# EAGLE library part MC100EP29DTG (library ON_Semiconductor_By_element14_Batch_1)
D Flip-Flop
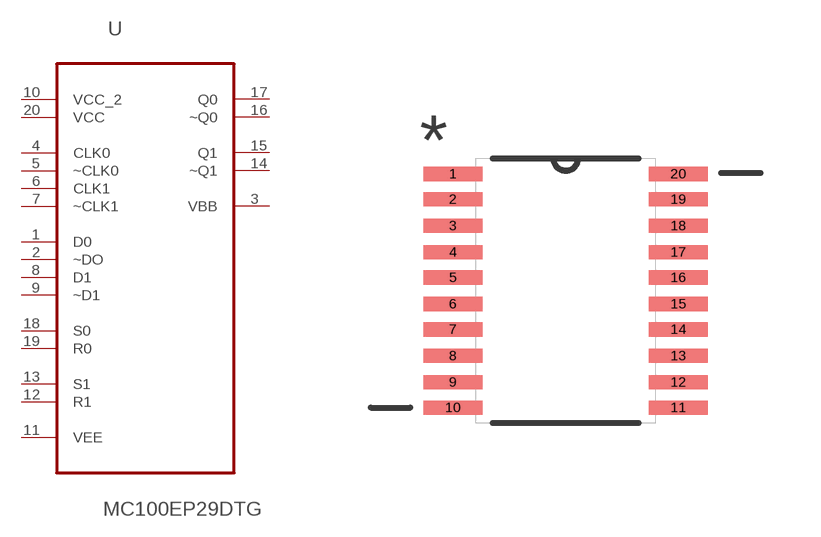
[diagram p112: symbol with the pads of SOP65P640X120-20N; footprint SOP65P640X120-20N]

Designator prefix U

## MC100EP29DTG (MPN: MC100EP29DTG; OC_FARNELL: 1126231; OC_NEWARK: 42K0420; PACKAGE: TSSOP-20; SUPPLIER: On Semiconductor)  [SOP65P640X120-20N]
1  D0  in
2  ~DO  in
3  VBB  out
4  CLK0  in
5  ~CLK0  in
6  CLK1  in
7  ~CLK1  in
8  D1  in
9  ~D1  in
10  VCC_2  pwr
11  VEE  pwr
12  R1  in
13  S1  in
14  ~Q1  out
15  Q1  out
16  ~Q0  out
17  Q0  out
18  S0  in
19  R0  in
20  VCC  pwr

## Footprint SOP65P640X120-20N (pad centres in mm)
smd 1.473 x 0.356: 1 -2.819,2.921; 2 -2.819,2.286; 3 -2.819,1.626; 4 -2.819,0.965; 5 -2.819,0.33; 6 -2.819,-0.33; 7 -2.819,-0.965; 8 -2.819,-1.626; 9 -2.819,-2.286; 10 -2.819,-2.921; 11 2.819,-2.921; 12 2.819,-2.286; 13 2.819,-1.626; 14 2.819,-0.965; 15 2.819,-0.33; 16 2.819,0.33; 17 2.819,0.965; 18 2.819,1.626; 19 2.819,2.286; 20 2.819,2.921